# EAGLE library part ISP-M (library EXCISS)
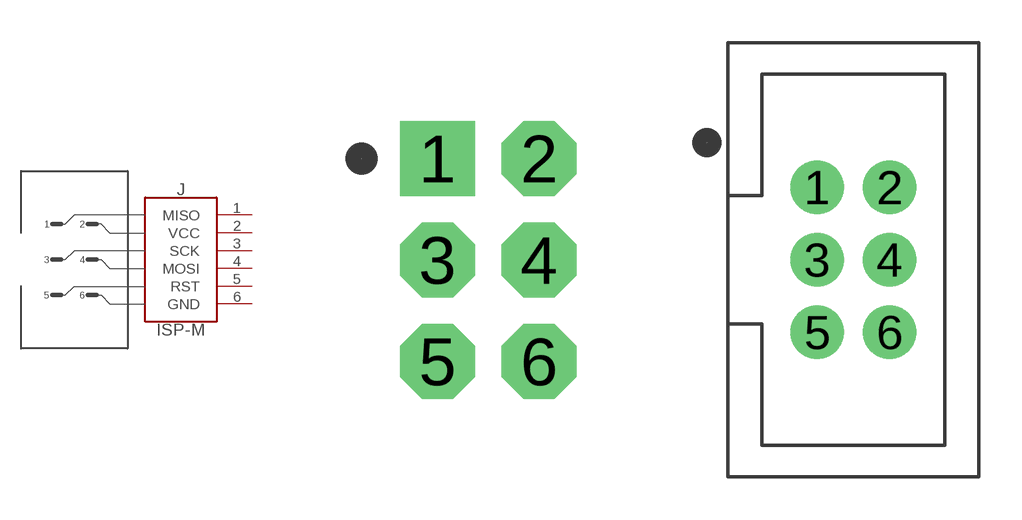
[diagram p13: symbol with the pads of MPE_087-2-006; footprints MPE_087-2-006, ISP-M-THT]

Designator prefix J

## ISP-M (OC_REICHELT: MPE 087-2-006)  [MPE_087-2-006]
1  MISO
2  VCC  pwr
3  SCK
4  MOSI
5  RST
6  GND  pwr

## ISP-M_WSL  [ISP-M-THT]
Pads as for MPE_087-2-006

## Footprint MPE_087-2-006 (pad centres in mm)
drill 1.016 pad 1.88 square: 1 0,0
drill 1.016 pad 1.88 octagon: 2 2.54,0; 3 0,-2.54; 4 2.54,-2.54; 5 0,-5.08; 6 2.54,-5.08

## Footprint ISP-M-THT (pad centres in mm)
drill 1.016 pad 1.88: 1 0,0; 2 2.54,0; 3 0,-2.54; 4 2.54,-2.54; 5 0,-5.08; 6 2.54,-5.08